# EAGLE library part ADC081C021 (library mes_adc)
ADC081C021 / ADC101C021 / ADC121C021 National Semiconductor I2C Analog to Digital Converter. 8-pin version. 6-pin variants either have single address line or alert line
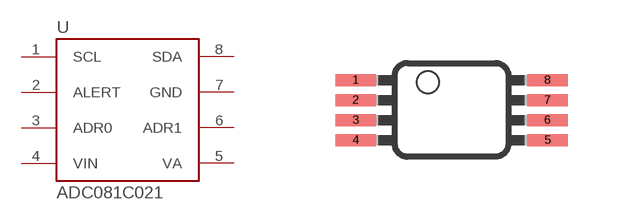
[diagram p0: symbol with the pads of MSOP8; footprint MSOP8]

Designator prefix -

## ADC081C021  [MSOP8]
1  SCL
2  ALERT
3  ADR0
4  VIN
5  VA
6  ADR1
7  GND
8  SDA

## Footprint MSOP8 (pad centres in mm)
smd 1.02 x 0.3: 1 -2.4,1; 2 -2.4,0.5; 3 -2.4,0; 4 -2.4,-0.5; 5 2.4,-0.5; 6 2.4,0; 7 2.4,0.5; 8 2.4,1